# Altium integrated library ferrit_bead_BLM21BD421SZ1D.IntLib: 1 symbol
Pins are listed as number, name and electrical type; pins without a type are passive.

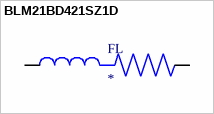
[diagram p0: symbol BLM21BD421SZ1D]

## BLM21BD421SZ1D
designator FL
Ferrite Bead; MP: BLM21BD421SZ1D; MF: Murata; SnapEDA_Link: https://www.snapeda.com/parts/BLM21BD421SZ1D/Murata/view-part/2733958/?ref=snap; Availability: Unavailable; Value: *; Price: None; Package: 2012 Murata
footprint BEADC2012X105N
pins: 1, 2